# EAGLE library part NSDEMN11XV6T (library Discrete)
On Semiconductor NSDEMn11XV6T Common Cathode Quad Array Switching Diode
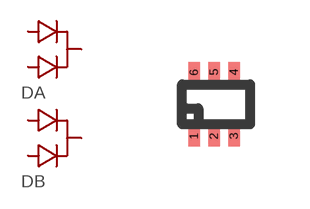
[diagram p3: symbol with the pads of SOT-563_6; footprint SOT-563_6]

Designator prefix D; gates A=BAV70 B=BAV70

## NSDEMN11XV6T  [SOT-563_6]
1  A:A1
2  A:A2
3  B:K
4  B:A1
5  B:A2
6  A:K

## Footprint SOT-563_6 (pad centres in mm)
smd 0.3 x 0.5: 1 -0.5,-0.8; 2 0,-0.8; 3 0.5,-0.8; 4 0.5,0.8; 5 0,0.8; 6 -0.5,0.8